# EAGLE library part M68030PGA (library 030Card)
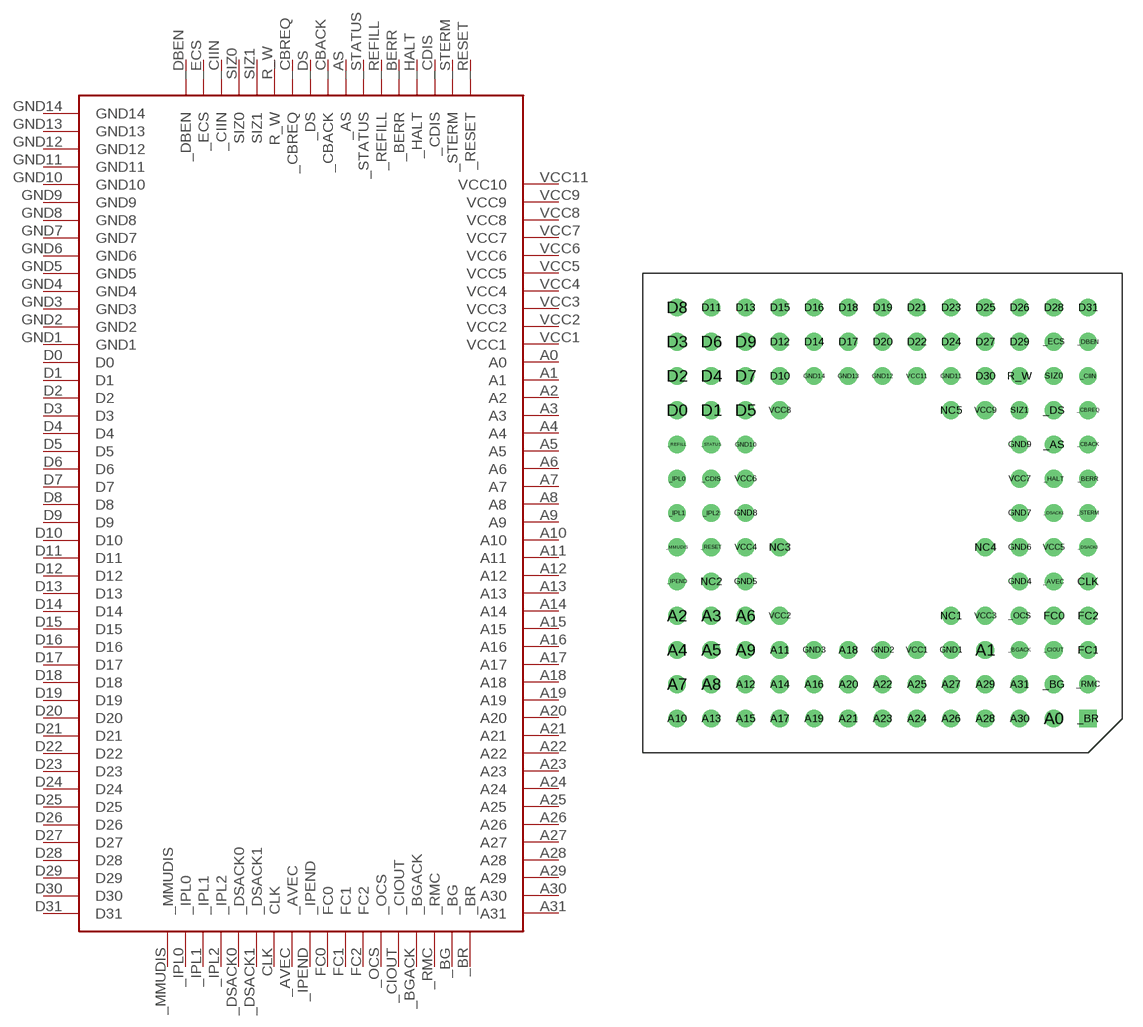
[diagram p0: symbol with the pads of M68030PGA; footprint M68030PGA]

Designator prefix -

## M68030PGA  [M68030PGA]
_AS  _AS
_AVEC  _AVEC
_BERR  _BERR
_BG  _BG
_BGACK  _BGACK
_BR  _BR
_CBACK  _CBACK
_CBREQ  _CBREQ
_CDIS  _CDIS
_CIIN  _CIIN
_CIOUT  _CIOUT
_DBEN  _DBEN
_DS  _DS
_DSACK0  _DSACK0
_DSACK1  _DSACK1
_ECS  _ECS
_HALT  _HALT
_IPEND  _IPEND
_IPL0  _IPL0
_IPL1  _IPL1
_IPL2  _IPL2
_MMUDIS  _MMUDIS
_OCS  _OCS
_REFILL  _REFILL
_RESET  _RESET
_RMC  _RMC
_STATUS  _STATUS
_STERM  _STERM
A0  A0
A1  A1
A2  A2
A3  A3
A4  A4
A5  A5
A6  A6
A7  A7
A8  A8
A9  A9
A10  A10
A11  A11
A12  A12
A13  A13
A14  A14
A15  A15
A16  A16
A17  A17
A18  A18
A19  A19
A20  A20
A21  A21
A22  A22
A23  A23
A24  A24
A25  A25
A26  A26
A27  A27
A28  A28
A29  A29
A30  A30
A31  A31
CLK  CLK
D0  D0
D1  D1
D2  D2
D3  D3
D4  D4
D5  D5
D6  D6
D7  D7
D8  D8
D9  D9
D10  D10
D11  D11
D12  D12
D13  D13
D14  D14
D15  D15
D16  D16
D17  D17
D18  D18
D19  D19
D20  D20
D21  D21
D22  D22
D23  D23
D24  D24
D25  D25
D26  D26
D27  D27
D28  D28
D29  D29
D30  D30
D31  D31
FC0  FC0
FC1  FC1
FC2  FC2
GND1  GND1
GND2  GND2
GND3  GND3
GND4  GND4
GND5  GND5
GND6  GND6
GND7  GND7
GND8  GND8
GND9  GND9
GND10  GND10
GND11  GND11
GND12  GND12
GND13  GND13
GND14  GND14
R_W  R_W
SIZ0  SIZ0
SIZ1  SIZ1
VCC1  VCC1
VCC2  VCC2
VCC3  VCC3
VCC4  VCC4
VCC5  VCC5
VCC6  VCC6
VCC7  VCC7
VCC8  VCC8
VCC9  VCC9
VCC11  VCC10

## Footprint M68030PGA (pad centres in mm)
drill 0.8: _AS 12.7,5.08; _AVEC 12.7,-5.08; _BERR 15.24,2.54; _BG 12.7,-12.7; _BGACK 10.16,-10.16; _CBACK 15.24,5.08; _CBREQ 15.24,7.62; _CDIS -12.7,2.54; _CIIN 15.24,10.16; _CIOUT 12.7,-10.16; _DBEN 15.24,12.7; _DS 12.7,7.62; _DSACK0 15.24,-2.54; _DSACK1 12.7,0; _ECS 12.7,12.7; _HALT 12.7,2.54; _IPEND -15.24,-5.08; _IPL0 -15.24,2.54; _IPL1 -15.24,0; _IPL2 -12.7,0; _MMUDIS -15.24,-2.54; _OCS 10.16,-7.62; _REFILL -15.24,5.08; _RESET -12.7,-2.54; _RMC 15.24,-12.7; _STATUS -12.7,5.08; _STERM 15.24,0; A0 12.7,-15.24; A1 7.62,-10.16; A2 -15.24,-7.62; A3 -12.7,-7.62; A4 -15.24,-10.16; A5 -12.7,-10.16; A6 -10.16,-7.62; A7 -15.24,-12.7; A8 -12.7,-12.7; A9 -10.16,-10.16; A10 -15.24,-15.24; A11 -7.62,-10.16; A12 -10.16,-12.7; A13 -12.7,-15.24; A14 -7.62,-12.7; A15 -10.16,-15.24; A16 -5.08,-12.7; A17 -7.62,-15.24; A18 -2.54,-10.16; A19 -5.08,-15.24; A20 -2.54,-12.7; A21 -2.54,-15.24; A22 0,-12.7; A23 0,-15.24; A24 2.54,-15.24; A25 2.54,-12.7; A26 5.08,-15.24; A27 5.08,-12.7; A28 7.62,-15.24; A29 7.62,-12.7; A30 10.16,-15.24; A31 10.16,-12.7; CLK 15.24,-5.08; D0 -15.24,7.62; D1 -12.7,7.62; D2 -15.24,10.16; D3 -15.24,12.7; D4 -12.7,10.16; D5 -10.16,7.62; D6 -12.7,12.7; D7 -10.16,10.16; D8 -15.24,15.24; D9 -10.16,12.7; D10 -7.62,10.16; D11 -12.7,15.24; D12 -7.62,12.7; D13 -10.16,15.24; D14 -5.08,12.7; D15 -7.62,15.24; D16 -5.08,15.24; D17 -2.54,12.7; D18 -2.54,15.24; D19 0,15.24; D20 0,12.7; D21 2.54,15.24; D22 2.54,12.7; D23 5.08,15.24; D24 5.08,12.7; D25 7.62,15.24; D26 10.16,15.24; D27 7.62,12.7; D28 12.7,15.24; D29 10.16,12.7; D30 7.62,10.16; D31 15.24,15.24; FC0 12.7,-7.62; FC1 15.24,-10.16; FC2 15.24,-7.62; GND1 5.08,-10.16; GND2 0,-10.16; GND3 -5.08,-10.16; GND4 10.16,-5.08; GND5 -10.16,-5.08; GND6 10.16,-2.54; GND7 10.16,0; GND8 -10.16,0; GND9 10.16,5.08; GND10 -10.16,5.08; GND11 5.08,10.16; GND12 0,10.16; GND13 -2.54,10.16; GND14 -5.08,10.16; NC1 5.08,-7.62; NC2 -12.7,-5.08; NC3 -7.62,-2.54; NC4 7.62,-2.54; NC5 5.08,7.62; R_W 10.16,10.16; SIZ0 12.7,10.16; SIZ1 10.16,7.62; VCC1 2.54,-10.16; VCC2 -7.62,-7.62; VCC3 7.62,-7.62; VCC4 -10.16,-2.54; VCC5 12.7,-2.54; VCC6 -10.16,2.54; VCC7 10.16,2.54; VCC8 -7.62,7.62; VCC9 7.62,7.62; VCC11 2.54,10.16
drill 0.8 square: _BR 15.24,-15.24